# Altium footprint library ISO1050DUB.PcbLib: 3 footprints
Each footprint in its own frame and in the unit in brackets; x right, y up, seen from the top. Pads: shape width x height; smd on the part's side, far side on the other; paste and mask are expansions set on the pad; w line width, h text height; cw(c..) or ccw(c..) is an arc to the next point about the centre after c.
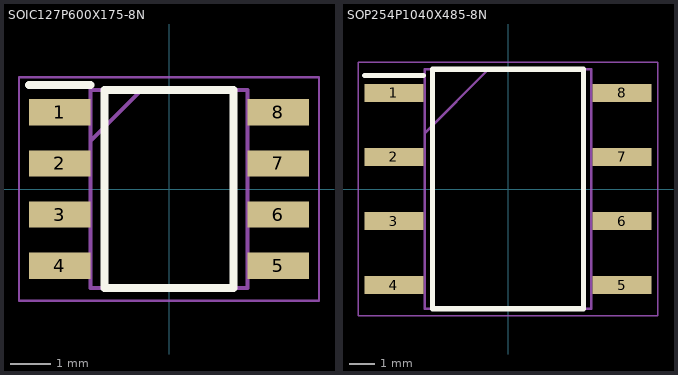
[diagram p0: the footprints below, top view; thin cyan lines are the x and y axes]

## PCBComponent_1 [mm]

## SOIC127P600X175-8N [mm]
pads (8):
  rect 1.525x0.65 smd: 1(-2.712,1.905) 2(-2.712,0.635) 3(-2.712,-0.635) 4(-2.712,-1.905) 5(2.712,-1.905) 6(2.712,-0.635) 7(2.712,0.635) 8(2.712,1.905)
Top Overlay:
  lines w0.2: -3.475,2.58 -1.95,2.58 ; -1.6,-2.462 1.6,-2.462 1.6,2.462 -1.6,2.462 -1.6,-2.462
Mechanical 13:
  lines w0.1: -1.95,1.192 -0.68,2.462 ; -1.95,-2.462 1.95,-2.462 1.95,2.462 -1.95,2.462 -1.95,-2.462
Mechanical 15:
  lines w0.05: -3.725,-2.775 3.725,-2.775 3.725,2.775 -3.725,2.775 -3.725,-2.775
3D body "AT24C512C-SSHD-T.stp": height 1.75, standoff 0, extent -2.997,-2.462 2.997,2.462

## SOP254P1040X485-8N [mm]
pads (8):
  rect 2.35x0.7 smd: 1(-4.525,3.81) 2(-4.525,1.27) 3(-4.525,-1.27) 4(-4.525,-3.81) 5(4.525,-3.81) 6(4.525,-1.27) 7(4.525,1.27) 8(4.525,3.81)
Top Overlay:
  lines w0.2: -5.7,4.51 -3.35,4.51 ; -3,-4.75 -3,4.75 3,4.75 3,-4.75 -3,-4.75
Mechanical 13:
  lines w0.1: -3.31,2.21 -0.77,4.75 ; -3.31,-4.75 -3.31,4.75 3.31,4.75 3.31,-4.75 -3.31,-4.75
Mechanical 15:
  lines w0.05: -5.95,-5.025 -5.95,5.025 5.95,5.025 5.95,-5.025 -5.95,-5.025
3D body "ISO1050DUB.stp": height 4.85, standoff 0, extent -5.2,-4.75 5.2,4.75